# EAGLE library part PARALLAX-LRF (library mita-akiba)
LASER range finder by Parallax 13,000 yens @ Akizuki 2012.06
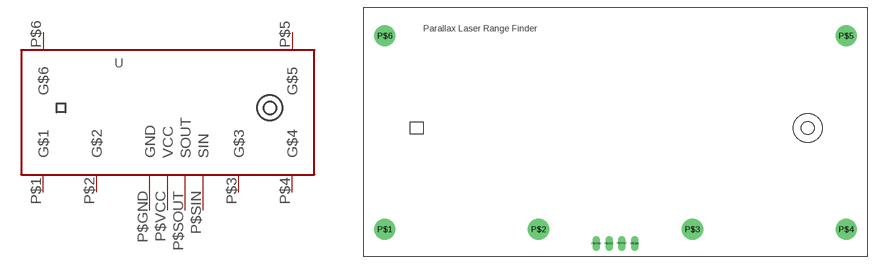
[diagram p63: symbol with the pads of PARALLAX-LRF; footprint PARALLAX-LRF]

Designator prefix -

## PARALLAX-LRF  [PARALLAX-LRF]
P$1  G$1
P$2  G$2
P$3  G$3
P$4  G$4
P$5  G$5
P$6  G$6
P$GND  GND
P$SIN  SIN
P$SOUT  SOUT
P$VCC  VCC

## Footprint PARALLAX-LRF (pad centres in mm)
drill 3.2: P$1 -45.72,2.794; P$2 -15.24,2.794; P$3 15.24,2.794; P$4 45.72,2.794; P$5 45.72,41.148; P$6 -45.72,41.148
drill 1 long: P$GND -3.81,0; P$SIN 3.81,0; P$SOUT 1.27,0; P$VCC -1.27,0